# Altium schematic symbol library ElectroMechanical.SchLib: 7 symbols
Pins are listed as number, name and electrical type; pins without a type are passive.

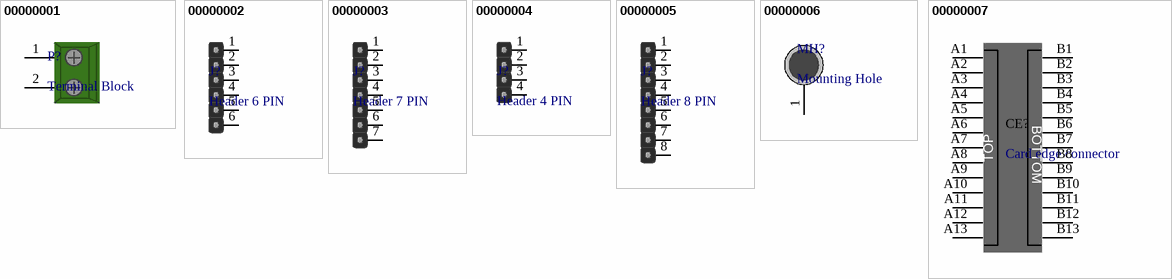
[diagram p0: symbols 00000001 to 00000007]

## 00000001
designator P?, comment Terminal Block
Terminal block 90 deg 5mm 2PIN; ComponentLink1Description: DigiKey; ComponentLink1URL: https://www.digikey.com/en/products/detail/adam-tech/EB20-02-C/9831508; DigiKey part number: 2057-EB20-02-C-ND
footprint TERM_BLOCK 5mm 2PIN
pins: 1 pin1, 2 pin2

## 00000002
designator J?, comment Header 6 PIN
footprint HEADER_6PIN
pins: 1, 2, 3, 4, 5, 6

## 00000003
designator J?, comment Header 7 PIN
footprint HEADER_7PIN
pins: 1, 2, 3, 4, 5, 6, 7

## 00000004
designator J?, comment Header 4 PIN
footprint HEADER_4PIN
pins: 1, 2, 3, 4

## 00000005
designator J?, comment Header 8 PIN
footprint HEADER_8PIN
pins: 1, 2, 3, 4, 5, 6, 7, 8

## 00000006
designator MH?, comment Mounting Hole
Mounting Hole 3mm
footprint HOLE-3mm
pins: 1

## 00000007
designator CE?, comment Card edge connector
Card edge connector 26 PINs
footprint Edge Connector
pins: A1, A2, A3, A4, A5, A6, A7, A8, A9, A10, A11, A12, A13, B1, B2, B3, B4, B5, B6, B7, B8, B9, B10, B11, B12, B13
text: BOTTOM; TOP